# Altium footprint library DSBGA-8.PcbLib: 1 footprints
Each footprint in its own frame and in the unit in brackets; x right, y up, seen from the top. Pads: shape width x height; smd on the part's side, far side on the other; paste and mask are expansions set on the pad; w line width, h text height; cw(c..) or ccw(c..) is an arc to the next point about the centre after c.
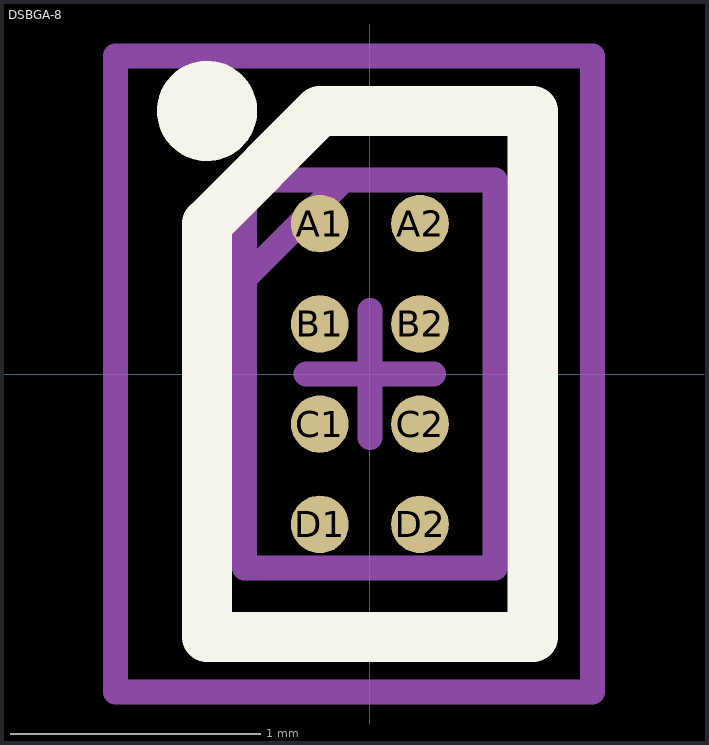
[diagram p0: the footprint, top view; thin cyan lines are the x and y axes]

## DSBGA-8 [mm]
pads (8):
  round 0.23 smd mask+0.05: A1(-0.2,0.6) A2(0.2,0.6) B1(-0.2,0.2) B2(0.2,0.2) C1(-0.2,-0.2) C2(0.2,-0.2) D1(-0.2,-0.6) D2(0.2,-0.6)
Top Overlay:
  circle w0.2: c-0.65,1.05 r0.1
  lines w0.2: -0.65,-1.05 0.65,-1.05 0.65,1.05 -0.2,1.05 -0.65,0.6 -0.65,-1.05
Mechanical 1:
  lines w0.1: -0.5,0.38 -0.105,0.775 ; -0.5,-0.775 0.5,-0.775 0.5,0.775 -0.5,0.775 -0.5,-0.775
  text ".Designator" at 0,-0.014 h0.6
Mechanical 15:
  lines w0.1: -0.254,0 0.254,0 ; 0,-0.254 0,0.254 ; -1.016,-1.27 0.889,-1.27 0.889,1.27 -1.016,1.27 -1.016,-1.27
3D body "BQ25180YBGR.stp": height 0.5, standoff 0, extent -0.5,-0.775 0.5,0.775